# Altium footprint library Connector_USB.PcbLib: 17 footprints (part 2 of 2)
Each footprint in its own frame and in the unit in brackets; x right, y up, seen from the top. Pads: shape width x height; smd on the part's side, far side on the other; paste and mask are expansions set on the pad; w line width, h text height; cw(c..) or ccw(c..) is an arc to the next point about the centre after c.
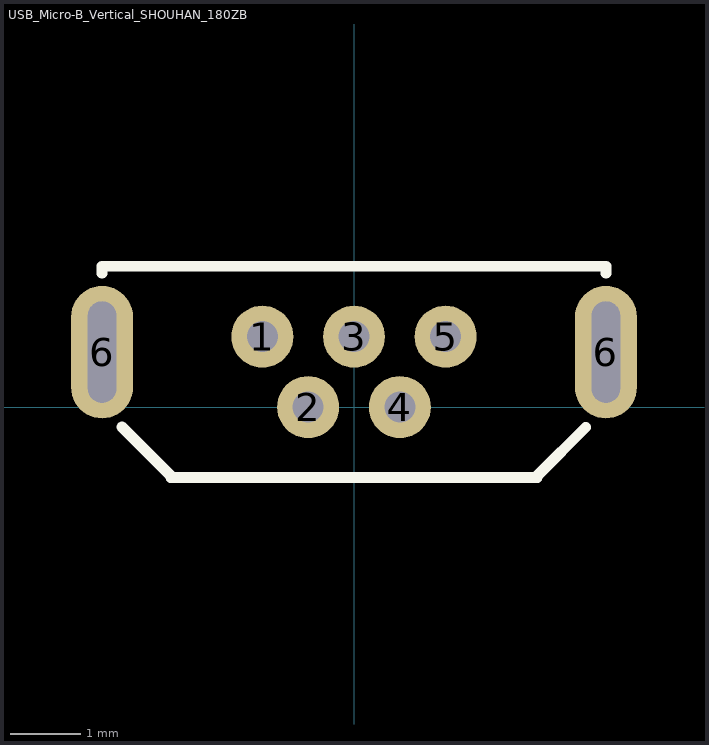
[diagram p1: the footprint, top view; thin cyan lines are the x and y axes]

## USB_Micro-B_Vertical_SHOUHAN_180ZB [mm]
pads (7):
  round 0.88 hole 0.44: 1(-1.3,1) 2(-0.65,0) 3(0,1) 4(0.65,0) 5(1.3,1)
  oval 0.88x1.88 hole 0.4 slot 1.44 at 90 deg: 6(-3.575,0.78) 6(3.575,0.78)
Top Overlay:
  lines w0.152: -3.575,1.9 -3.575,2 3.575,2 3.575,1.9 ; -3.294,-0.281 -2.618,-0.957 cw(c-2.66,-1) -2.6,-1 2.6,-1 cw(c2.66,-1) 2.618,-0.957 3.288,-0.287